# EAGLE library part MICROSD-DET-SH (library borkedlabs-connectors)
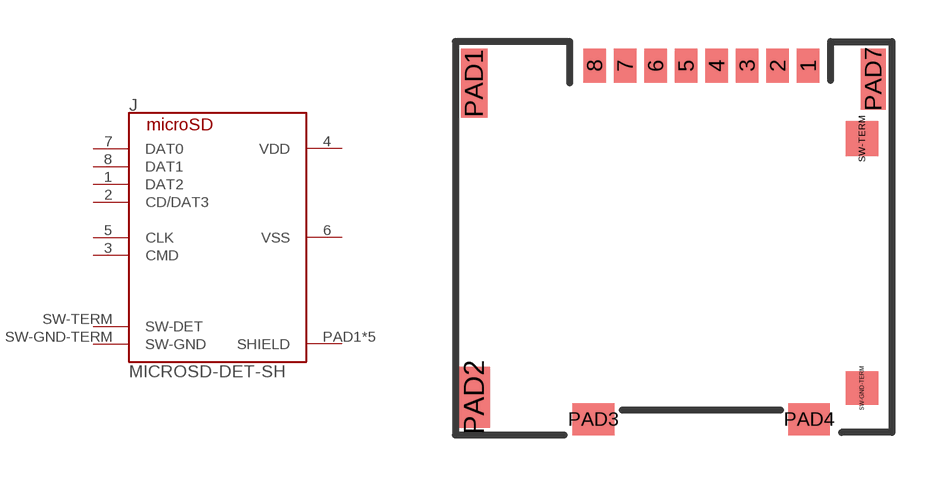
[diagram p7: symbol with the pads of MOLEX-5031821852; footprint MOLEX-5031821852]

Designator prefix J

## MICROSD-DET-SH (MPN: 5031821852)  [MOLEX-5031821852]
1  DAT2
2  CD/DAT3
3  CMD
4  VDD
5  CLK
6  VSS
7  DAT0
8  DAT1
PAD1  SHIELD
PAD2  SHIELD
PAD3  SHIELD
PAD4  SHIELD
PAD7  SHIELD
SW-GND-TERM  SW-GND
SW-TERM  SW-DET

## Footprint MOLEX-5031821852 (pad centres in mm)
MICRO SD CONN. NORMAL ULTRA LOW-PROFILE ASSY
smd 0.8 x 1.24: 1 4.8,5.63; 2 3.7,5.63; 3 2.6,5.63; 4 1.5,5.63; 5 0.4,5.63; 6 -0.7,5.63; 7 -1.8,5.63; 8 -2.9,5.63
smd 0.95 x 2.5: PAD1 -7.245,5
smd 1.15 x 2.2: PAD2 -7.245,-6.33
smd 1.5 x 1.15: PAD3 -2.94,-7.125; PAD4 4.84,-7.125
smd 0.9 x 2.2: PAD7 7.145,5.15
smd 1.16 x 1.2: SW-GND-TERM 6.74,-6
smd 1.16 x 1.25: SW-TERM 6.74,3